# Altium schematic symbol library Controller-RK3562.SCHLIB: 538 symbols (part 1 of 5)
Pins are listed as number, name and electrical type; pins without a type are passive.

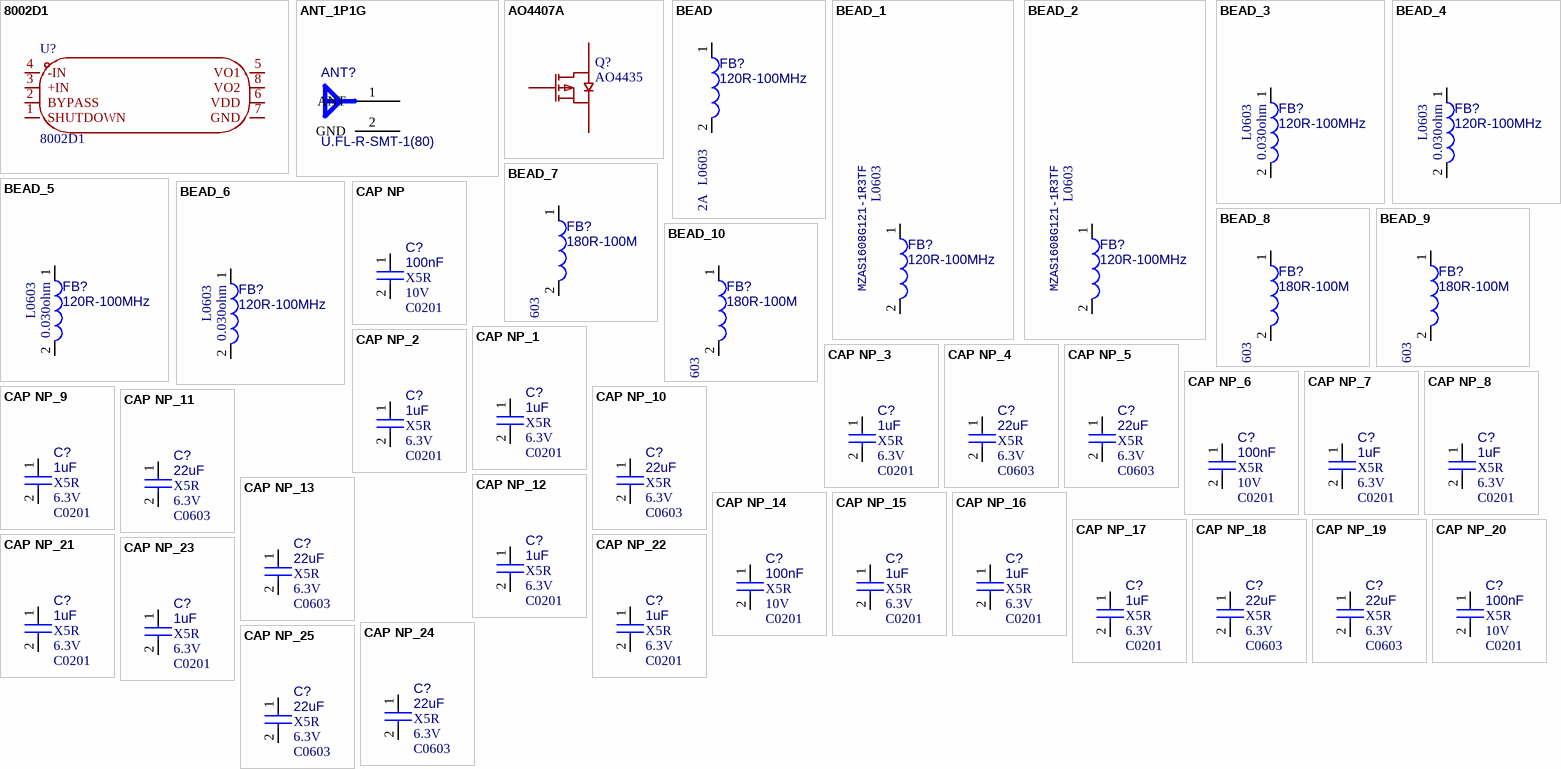
[diagram p0: symbols 8002D1 to CAP NP_25]

## 8002D1
designator U?
ManufacturingPartNumber: *; Manufacturer: *; SupplierPartNumber: *; Supplier: *; VoltageRate: *
footprint SOP-8_L4.9-W3.9-P1.27-LS6.0-BL-1
pins: 1 SHUTDOWN, 2 BYPASS, 3 +IN, 4 -IN, 5 VO1, 6 VDD, 7 GND, 8 VO2

## ANT_1P1G
designator ANT?, comment U.FL-R-SMT-1(80)
BWIPX-1-001E; Manufacturer: Rockchip
footprint IPEX-SMD_BWIPX-1-001E
pins: 1 ANT, 2 GND

## AO4407A
designator Q?, comment AO4435
ManufacturingPartNumber: *; Manufacturer: *; SupplierPartNumber: *; Supplier: *; VoltageRate: *
footprint SOP-8_L4.9-W3.9-P1.27-LS6.0-BL-1
pins: 1 S, 2 S, 3 S, 4 G, 5 D, 6 D, 7 D, 8 D

## BEAD
designator FB?, comment 120R-100MHz  PCB Footprint: L0603  Irms: 2A
BEAD,120R@100MHz,current=2000mA,0603; Part Reference: FB2100; Manufacturer: Murata; DC Resistor: 0.030ohm; Tolerance: 25%; RK PN: BLM18KG121TN1; Priority: L; Value: 120R-100MHz; Part Type: BEAD; Manufacturer PN: BLM18KG121TN1; Created by: DZS
footprint L0603
pins: 1, 2

## BEAD_1
designator FB?, comment 120R-100MHz  PCB Footprint: L0603  Manufacturer PN: MZAS1608G121-1R3TF
BEAD,120R@100MHz,current=2000mA,0603; Part Reference: FB2101; Manufacturer: SUNLORD; DC Resistor: 0.030ohm; Tolerance: 25%; Irms: 2A; RK PN: BLM18KG121TN1; Priority: L; Value: 120R-100MHz; Part Type: BEAD; Created by: DZS
footprint L0603
pins: 1, 2

## BEAD_2
designator FB?, comment 120R-100MHz  PCB Footprint: L0603  Manufacturer PN: MZAS1608G121-1R3TF
BEAD,120R@100MHz,current=2000mA,0603; Part Reference: FB2102; Manufacturer: SUNLORD; DC Resistor: 0.030ohm; Tolerance: 25%; Irms: 2A; Priority: L; RK PN: BLM18KG121TN1; Value: 120R-100MHz; Created by: DZS; Part Type: BEAD
footprint L0603
pins: 1, 2

## BEAD_3
designator FB?, comment 120R-100MHz  DC Resistor: 0.030ohm  PCB Footprint: L0603
BEAD,120R@100MHz,current=2000mA,0603; Part Reference: FB2200; Manufacturer: Murata; Tolerance: 25%; Irms: 2A; RK PN: BLM18KG121TN1; Priority: L; Value: 120R-100MHz; Part Type: BEAD; Manufacturer PN: BLM18KG121TN1; Created by: DZS
footprint L0603
pins: 1, 2

## BEAD_4
designator FB?, comment 120R-100MHz  DC Resistor: 0.030ohm  PCB Footprint: L0603
BEAD,120R@100MHz,current=2000mA,0603; Part Reference: FB2201; Manufacturer PN: BLM18KG121TN1; Manufacturer: Murata; Tolerance: 25%; Irms: 2A; Priority: L; Value: 120R-100MHz; Created by: DZS; Part Type: BEAD; RK PN: BLM18KG121TN1
footprint L0603
pins: 1, 2

## BEAD_5
designator FB?, comment 120R-100MHz  DC Resistor: 0.030ohm  PCB Footprint: L0603
BEAD,120R@100MHz,current=2000mA,0603; Part Reference: FB2202; Manufacturer PN: BLM18KG121TN1; Manufacturer: Murata; Tolerance: 25%; Irms: 2A; Priority: L; Value: 120R-100MHz; Created by: DZS; Part Type: BEAD; RK PN: BLM18KG121TN1
footprint L0603
pins: 1, 2

## BEAD_6
designator FB?, comment 120R-100MHz  DC Resistor: 0.030ohm  PCB Footprint: L0603
BEAD,120R@100MHz,current=2000mA,0603; Part Reference: FB2203; Manufacturer: Murata; Tolerance: 25%; Irms: 2A; RK PN: BLM18KG121TN1; Priority: L; Value: 120R-100MHz; Part Type: BEAD; Manufacturer PN: BLM18KG121TN1; Created by: DZS
footprint L0603
pins: 1, 2

## BEAD_7
designator FB?, comment 180R-100M  PCB Footprint: L0603
Ferrite Bead,180R-100M,0.25,L0603; Part Reference: FB2204; Manufacturer PN: BLM18PG181SN1; Manufacturer: Murata; DC Resistor: 0.09ohm; Tolerance: 25%; Irms: 1.5A; Priority: A; Value: 180R-100M; Created by: YTL; Part Type: BEAD; RK PN: BLM18PG181SN1
footprint L0603
pins: 1, 2

## BEAD_8
designator FB?, comment 180R-100M  PCB Footprint: L0603
Ferrite Bead,180R-100M,0.25,L0603; Part Reference: FB2205; Manufacturer PN: BLM18PG181SN1; Manufacturer: Murata; DC Resistor: 0.09ohm; Tolerance: 25%; Irms: 1.5A; Priority: A; Value: 180R-100M; Created by: YTL; Part Type: BEAD; RK PN: BLM18PG181SN1
footprint L0603
pins: 1, 2

## BEAD_9
designator FB?, comment 180R-100M  PCB Footprint: L0603
Ferrite Bead,180R-100M,0.25,L0603; Part Reference: FB2206; Manufacturer PN: BLM18PG181SN1; Manufacturer: Murata; DC Resistor: 0.09ohm; Tolerance: 25%; Irms: 1.5A; Priority: A; Value: 180R-100M; Created by: YTL; Part Type: BEAD; RK PN: BLM18PG181SN1
footprint L0603
pins: 1, 2

## BEAD_10
designator FB?, comment 180R-100M  PCB Footprint: L0603
Ferrite Bead,180R-100M,0.25,L0603; Part Reference: FB2207; Manufacturer PN: BLM18PG181SN1; Manufacturer: Murata; DC Resistor: 0.09ohm; Tolerance: 25%; Irms: 1.5A; Priority: A; Value: 180R-100M; Created by: YTL; Part Type: BEAD; RK PN: BLM18PG181SN1
footprint L0603
pins: 1, 2

## CAP NP
designator C?, comment 100nF  Dielectric: X5R  PCB Footprint: C0201  Voltage: 10V
cap,100.00nF,+/-10%,10V,X5R,C0201; Part Reference: C1000; Manufacturer PN: C0603X5R1A104K030BC; Manufacturer: TDK; Tolerance: 10%; Priority: A; Value: 100nF; Created by: JJJ; Part Type: C0201; RK PN: C0603X5R1A104K030BC; ClassName: RK
footprint C0201
pins: 1, 2

## CAP NP_1
designator C?, comment 1uF  Dielectric: X5R  PCB Footprint: C0201  Voltage: 6.3V
cap,1.00uF,+/-20%,6.3V,X5R,C0201; Part Reference: C1001; Manufacturer: TDK; RK PN: C0603X5R0J105M030BC; Priority: A; Tolerance: 20%; Value: 1uF; Part Type: C0201; Manufacturer PN: C0603X5R0J105M030BC; Created by: JJJ; ClassName: RK
footprint C0201
pins: 1, 2

## CAP NP_2
designator C?, comment 1uF  Dielectric: X5R  PCB Footprint: C0201  Voltage: 6.3V
cap,1.00uF,+/-20%,6.3V,X5R,C0201; Part Reference: C1002; Manufacturer PN: C0603X5R0J105M030BC; Manufacturer: TDK; Tolerance: 20%; Priority: A; Value: 1uF; Created by: JJJ; Part Type: C0201; RK PN: C0603X5R0J105M030BC; ClassName: RK
footprint C0201
pins: 1, 2

## CAP NP_3
designator C?, comment 1uF  Dielectric: X5R  PCB Footprint: C0201  Voltage: 6.3V
cap,1.00uF,+/-20%,6.3V,X5R,C0201; Part Reference: C1003; Manufacturer PN: C0603X5R0J105M030BC; Manufacturer: TDK; Tolerance: 20%; Priority: A; Value: 1uF; Created by: JJJ; Part Type: C0201; RK PN: C0603X5R0J105M030BC; ClassName: RK
footprint C0201
pins: 1, 2

## CAP NP_4
designator C?, comment 22uF  Dielectric: X5R  PCB Footprint: C0603  Voltage: 6.3V
cap,22.00uF,+/-20%,6.3V,X5R,C0603; Part Reference: C1004; Manufacturer PN: C1608X5R0J226M080AC; Manufacturer: TDK; Tolerance: 20%; Priority: A; Value: 22uF; Created by: JJJ; C_Voltage: 6.3V; Part Type: C0603; RK PN: C1608X5R0J226M080AC; ClassName: RK
footprint C0603
pins: 1, 2

## CAP NP_5
designator C?, comment 22uF  Dielectric: X5R  PCB Footprint: C0603  Voltage: 6.3V
cap,22.00uF,+/-20%,6.3V,X5R,C0603; Part Reference: C1005; Manufacturer PN: C1608X5R0J226M080AC; Manufacturer: TDK; Tolerance: 20%; Priority: A; Value: 22uF; Created by: JJJ; C_Voltage: 6.3V; Part Type: C0603; RK PN: C1608X5R0J226M080AC; ClassName: RK
footprint C0603
pins: 1, 2

## CAP NP_6
designator C?, comment 100nF  Dielectric: X5R  PCB Footprint: C0201  Voltage: 10V
cap,100.00nF,+/-10%,10V,X5R,C0201; Part Reference: C1007; Manufacturer PN: C0603X5R1A104K030BC; Manufacturer: TDK; Tolerance: 10%; Priority: A; Value: 100nF; Created by: JJJ; Part Type: C0201; RK PN: C0603X5R1A104K030BC; ClassName: RK
footprint C0201
pins: 1, 2

## CAP NP_7
designator C?, comment 1uF  Dielectric: X5R  PCB Footprint: C0201  Voltage: 6.3V
cap,1.00uF,+/-20%,6.3V,X5R,C0201; Part Reference: C1008; Manufacturer: TDK; RK PN: C0603X5R0J105M030BC; Priority: A; Tolerance: 20%; Value: 1uF; Part Type: C0201; Manufacturer PN: C0603X5R0J105M030BC; Created by: JJJ; ClassName: RK
footprint C0201
pins: 1, 2

## CAP NP_8
designator C?, comment 1uF  Dielectric: X5R  PCB Footprint: C0201  Voltage: 6.3V
cap,1.00uF,+/-20%,6.3V,X5R,C0201; Part Reference: C1009; Manufacturer PN: C0603X5R0J105M030BC; Manufacturer: TDK; Tolerance: 20%; Priority: A; Value: 1uF; Created by: JJJ; Part Type: C0201; RK PN: C0603X5R0J105M030BC; ClassName: RK
footprint C0201
pins: 1, 2

## CAP NP_9
designator C?, comment 1uF  Dielectric: X5R  PCB Footprint: C0201  Voltage: 6.3V
cap,1.00uF,+/-20%,6.3V,X5R,C0201; Part Reference: C1010; Manufacturer PN: C0603X5R0J105M030BC; Manufacturer: TDK; Tolerance: 20%; Priority: A; Value: 1uF; Created by: JJJ; Part Type: C0201; RK PN: C0603X5R0J105M030BC; ClassName: RK
footprint C0201
pins: 1, 2

## CAP NP_10
designator C?, comment 22uF  Dielectric: X5R  PCB Footprint: C0603  Voltage: 6.3V
cap,22.00uF,+/-20%,6.3V,X5R,C0603; Part Reference: C1011; Manufacturer PN: C1608X5R0J226M080AC; Manufacturer: TDK; Tolerance: 20%; Priority: A; Value: 22uF; Created by: JJJ; C_Voltage: 6.3V; Part Type: C0603; RK PN: C1608X5R0J226M080AC; ClassName: RK
footprint C0603
pins: 1, 2

## CAP NP_11
designator C?, comment 22uF  Dielectric: X5R  PCB Footprint: C0603  Voltage: 6.3V
cap,22.00uF,+/-20%,6.3V,X5R,C0603; Part Reference: C1012; Manufacturer PN: C1608X5R0J226M080AC; Manufacturer: TDK; Tolerance: 20%; Priority: A; Value: 22uF; Created by: JJJ; C_Voltage: 6.3V; Part Type: C0603; RK PN: C1608X5R0J226M080AC; ClassName: RK
footprint C0603
pins: 1, 2

## CAP NP_12
designator C?, comment 1uF  Dielectric: X5R  PCB Footprint: C0201  Voltage: 6.3V
cap,1.00uF,+/-20%,6.3V,X5R,C0201; Part Reference: C1006; Manufacturer PN: C0603X5R0J105M030BC; Manufacturer: TDK; Tolerance: 20%; Priority: A; Value: 1uF; Created by: JJJ; Part Type: C0201; RK PN: C0603X5R0J105M030BC; ClassName: RK
footprint C0201
pins: 1, 2

## CAP NP_13
designator C?, comment 22uF  Dielectric: X5R  PCB Footprint: C0603  Voltage: 6.3V
cap,22.00uF,+/-20%,6.3V,X5R,C0603; Part Reference: C1025; Manufacturer: TDK; RK PN: C1608X5R0J226M080AC; Priority: A; Tolerance: 20%; Value: 22uF; Part Type: C0603; C_Voltage: 6.3V; Manufacturer PN: C1608X5R0J226M080AC; Created by: JJJ; ClassName: RK
footprint C0603
pins: 1, 2

## CAP NP_14
designator C?, comment 100nF  Dielectric: X5R  PCB Footprint: C0201  Voltage: 10V
cap,100.00nF,+/-10%,10V,X5R,C0201; Part Reference: C1013; Manufacturer PN: C0603X5R1A104K030BC; Manufacturer: TDK; Tolerance: 10%; Priority: A; Value: 100nF; Created by: JJJ; Part Type: C0201; RK PN: C0603X5R1A104K030BC; ClassName: RK
footprint C0201
pins: 1, 2

## CAP NP_15
designator C?, comment 1uF  Dielectric: X5R  PCB Footprint: C0201  Voltage: 6.3V
cap,1.00uF,+/-20%,6.3V,X5R,C0201; Part Reference: C1014; Manufacturer: TDK; RK PN: C0603X5R0J105M030BC; Priority: A; Tolerance: 20%; Value: 1uF; Part Type: C0201; Manufacturer PN: C0603X5R0J105M030BC; Created by: JJJ; ClassName: RK
footprint C0201
pins: 1, 2

## CAP NP_16
designator C?, comment 1uF  Dielectric: X5R  PCB Footprint: C0201  Voltage: 6.3V
cap,1.00uF,+/-20%,6.3V,X5R,C0201; Part Reference: C1015; Manufacturer PN: C0603X5R0J105M030BC; Manufacturer: TDK; Tolerance: 20%; Priority: A; Value: 1uF; Created by: JJJ; Part Type: C0201; RK PN: C0603X5R0J105M030BC; ClassName: RK
footprint C0201
pins: 1, 2

## CAP NP_17
designator C?, comment 1uF  Dielectric: X5R  PCB Footprint: C0201  Voltage: 6.3V
cap,1.00uF,+/-20%,6.3V,X5R,C0201; Part Reference: C1016; Manufacturer PN: C0603X5R0J105M030BC; Manufacturer: TDK; Tolerance: 20%; Priority: A; Value: 1uF; Created by: JJJ; Part Type: C0201; RK PN: C0603X5R0J105M030BC; ClassName: RK
footprint C0201
pins: 1, 2

## CAP NP_18
designator C?, comment 22uF  Dielectric: X5R  PCB Footprint: C0603  Voltage: 6.3V
cap,22.00uF,+/-20%,6.3V,X5R,C0603; Part Reference: C1017; Manufacturer PN: C1608X5R0J226M080AC; Manufacturer: TDK; Tolerance: 20%; Priority: A; Value: 22uF; Created by: JJJ; C_Voltage: 6.3V; Part Type: C0603; RK PN: C1608X5R0J226M080AC; ClassName: RK
footprint C0603
pins: 1, 2

## CAP NP_19
designator C?, comment 22uF  Dielectric: X5R  PCB Footprint: C0603  Voltage: 6.3V
cap,22.00uF,+/-20%,6.3V,X5R,C0603; Part Reference: C1018; Manufacturer PN: C1608X5R0J226M080AC; Manufacturer: TDK; Tolerance: 20%; Priority: A; Value: 22uF; Created by: JJJ; C_Voltage: 6.3V; Part Type: C0603; RK PN: C1608X5R0J226M080AC; ClassName: RK
footprint C0603
pins: 1, 2

## CAP NP_20
designator C?, comment 100nF  Dielectric: X5R  PCB Footprint: C0201  Voltage: 10V
cap,100.00nF,+/-10%,10V,X5R,C0201; Part Reference: C1019; Manufacturer PN: C0603X5R1A104K030BC; Manufacturer: TDK; Tolerance: 10%; Priority: A; Value: 100nF; Created by: JJJ; Part Type: C0201; RK PN: C0603X5R1A104K030BC; ClassName: RK
footprint C0201
pins: 1, 2

## CAP NP_21
designator C?, comment 1uF  Dielectric: X5R  PCB Footprint: C0201  Voltage: 6.3V
cap,1.00uF,+/-20%,6.3V,X5R,C0201; Part Reference: C1020; Manufacturer: TDK; RK PN: C0603X5R0J105M030BC; Priority: A; Tolerance: 20%; Value: 1uF; Part Type: C0201; Manufacturer PN: C0603X5R0J105M030BC; Created by: JJJ; ClassName: RK
footprint C0201
pins: 1, 2

## CAP NP_22
designator C?, comment 1uF  Dielectric: X5R  PCB Footprint: C0201  Voltage: 6.3V
cap,1.00uF,+/-20%,6.3V,X5R,C0201; Part Reference: C1021; Manufacturer PN: C0603X5R0J105M030BC; Manufacturer: TDK; Tolerance: 20%; Priority: A; Value: 1uF; Created by: JJJ; Part Type: C0201; RK PN: C0603X5R0J105M030BC; ClassName: RK
footprint C0201
pins: 1, 2

## CAP NP_23
designator C?, comment 1uF  Dielectric: X5R  PCB Footprint: C0201  Voltage: 6.3V
cap,1.00uF,+/-20%,6.3V,X5R,C0201; Part Reference: C1022; Manufacturer: TDK; RK PN: C0603X5R0J105M030BC; Priority: A; Tolerance: 20%; Value: 1uF; Part Type: C0201; Manufacturer PN: C0603X5R0J105M030BC; Created by: JJJ; ClassName: RK
footprint C0201
pins: 1, 2

## CAP NP_24
designator C?, comment 22uF  Dielectric: X5R  PCB Footprint: C0603  Voltage: 6.3V
cap,22.00uF,+/-20%,6.3V,X5R,C0603; Part Reference: C1023; Manufacturer PN: C1608X5R0J226M080AC; Manufacturer: TDK; Tolerance: 20%; Priority: A; Value: 22uF; Created by: JJJ; C_Voltage: 6.3V; Part Type: C0603; RK PN: C1608X5R0J226M080AC; ClassName: RK
footprint C0603
pins: 1, 2

## CAP NP_25
designator C?, comment 22uF  Dielectric: X5R  PCB Footprint: C0603  Voltage: 6.3V
cap,22.00uF,+/-20%,6.3V,X5R,C0603; Part Reference: C1024; Manufacturer PN: C1608X5R0J226M080AC; Manufacturer: TDK; Tolerance: 20%; Priority: A; Value: 22uF; Created by: JJJ; C_Voltage: 6.3V; Part Type: C0603; RK PN: C1608X5R0J226M080AC; ClassName: RK
footprint C0603
pins: 1, 2

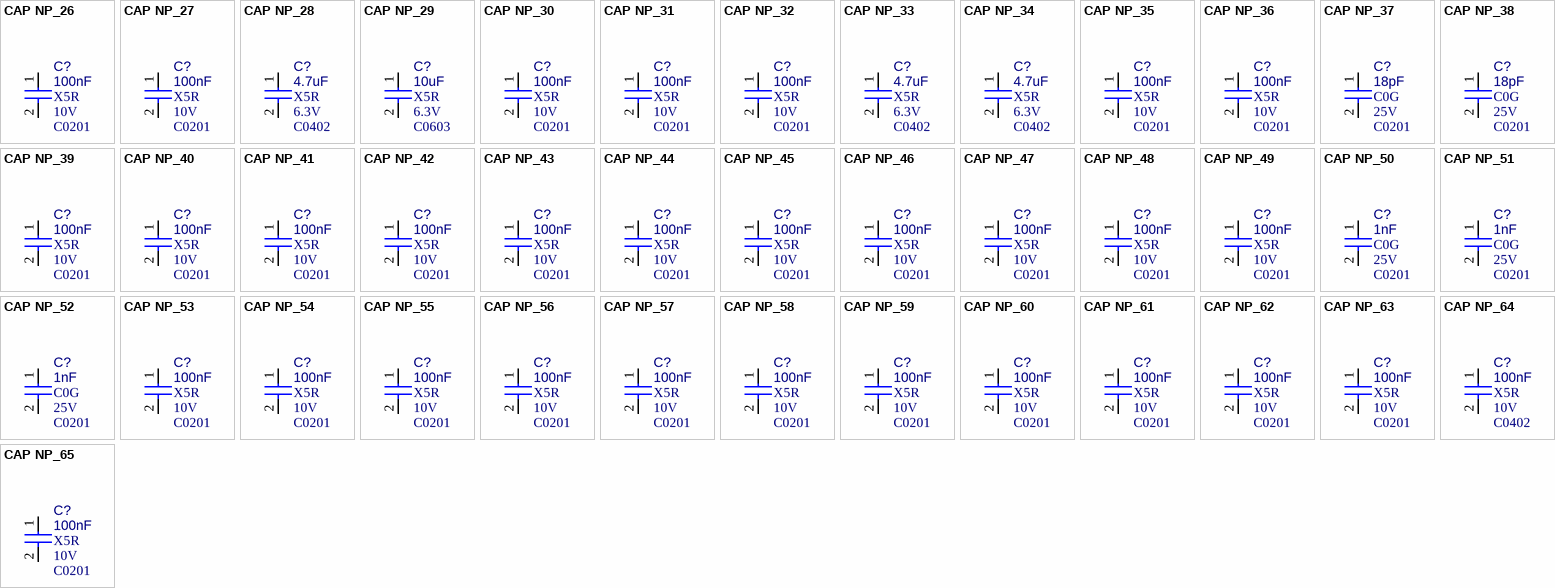
[diagram p1: symbols CAP NP_26 to CAP NP_65]

## CAP NP_26
designator C?, comment 100nF  Dielectric: X5R  PCB Footprint: C0201  Voltage: 10V
cap,100.00nF,+/-10%,10V,X5R,C0201; Part Reference: C1100; Manufacturer PN: C0603X5R1A104K030BC; Manufacturer: TDK; Tolerance: 10%; Priority: A; Value: 100nF; Created by: JJJ; Part Type: C0201; RK PN: C0603X5R1A104K030BC; ClassName: RK
footprint C0201
pins: 1, 2

## CAP NP_27
designator C?, comment 100nF  Dielectric: X5R  PCB Footprint: C0201  Voltage: 10V
cap,100.00nF,+/-10%,10V,X5R,C0201; Part Reference: C1101; Manufacturer PN: C0603X5R1A104K030BC; Manufacturer: TDK; Tolerance: 10%; Priority: A; Value: 100nF; Created by: JJJ; Part Type: C0201; RK PN: C0603X5R1A104K030BC; ClassName: RK
footprint C0201
pins: 1, 2

## CAP NP_28
designator C?, comment 4.7uF  Dielectric: X5R  PCB Footprint: C0402  Voltage: 6.3V
cap,4.70uF,+/-10%,6.3V,X5R,C0402; Part Reference: C1102; Manufacturer: TDK; RK PN: C1005X5R0J475K050BC; Priority: A; Tolerance: 10%; Value: 4.7uF; Part Type: C0402; Manufacturer PN: C1005X5R0J475K050BC; Created by: JJJ; ClassName: RK
footprint C0402
pins: 1, 2

## CAP NP_29
designator C?, comment 10uF  Dielectric: X5R  PCB Footprint: C0603  Voltage: 6.3V
cap,10.00uF,+/-10%,6.3V,X5R,C0603; Part Reference: C1103; Manufacturer PN: C1608X5R0J106K080AB; Manufacturer: TDK; Tolerance: 10%; Priority: A; Value: 10uF; Created by: JJJ; Part Type: C0603; RK PN: C1608X5R0J106K080AB; ClassName: RK
footprint C0603
pins: 1, 2

## CAP NP_30
designator C?, comment 100nF  Dielectric: X5R  PCB Footprint: C0201  Voltage: 10V
cap,100.00nF,+/-10%,10V,X5R,C0201; Part Reference: C1108; Manufacturer: TDK; RK PN: C0603X5R1A104K030BC; Priority: A; Tolerance: 10%; Value: 100nF; Part Type: C0201; Manufacturer PN: C0603X5R1A104K030BC; Created by: JJJ; ClassName: RK
footprint C0201
pins: 1, 2

## CAP NP_31
designator C?, comment 100nF  Dielectric: X5R  PCB Footprint: C0201  Voltage: 10V
cap,100.00nF,+/-10%,10V,X5R,C0201; Part Reference: C1104; Manufacturer PN: C0603X5R1A104K030BC; Manufacturer: TDK; Tolerance: 10%; Priority: A; Value: 100nF; Created by: JJJ; Part Type: C0201; RK PN: C0603X5R1A104K030BC; ClassName: RK
footprint C0201
pins: 1, 2

## CAP NP_32
designator C?, comment 100nF  Dielectric: X5R  PCB Footprint: C0201  Voltage: 10V
cap,100.00nF,+/-10%,10V,X5R,C0201; Part Reference: C1105; Manufacturer PN: C0603X5R1A104K030BC; Manufacturer: TDK; Tolerance: 10%; Priority: A; Value: 100nF; Created by: JJJ; Part Type: C0201; RK PN: C0603X5R1A104K030BC; ClassName: RK
footprint C0201
pins: 1, 2

## CAP NP_33
designator C?, comment 4.7uF  Dielectric: X5R  PCB Footprint: C0402  Voltage: 6.3V
cap,4.70uF,+/-10%,6.3V,X5R,C0402; Part Reference: C1106; Manufacturer: TDK; RK PN: C1005X5R0J475K050BC; Priority: A; Tolerance: 10%; Value: 4.7uF; Part Type: C0402; Manufacturer PN: C1005X5R0J475K050BC; Created by: JJJ; ClassName: RK
footprint C0402
pins: 1, 2

## CAP NP_34
designator C?, comment 4.7uF  Dielectric: X5R  PCB Footprint: C0402  Voltage: 6.3V
cap,4.70uF,+/-10%,6.3V,X5R,C0402; Part Reference: C1107; Manufacturer PN: C1005X5R0J475K050BC; Manufacturer: TDK; Tolerance: 10%; Priority: A; Value: 4.7uF; Created by: JJJ; Part Type: C0402; RK PN: C1005X5R0J475K050BC; ClassName: RK
footprint C0402
pins: 1, 2

## CAP NP_35
designator C?, comment 100nF  Dielectric: X5R  PCB Footprint: C0201  Voltage: 10V
cap,100.00nF,+/-10%,10V,X5R,C0201; Part Reference: C1109; Manufacturer: TDK; RK PN: C0603X5R1A104K030BC; Priority: A; Tolerance: 10%; Value: 100nF; Part Type: C0201; Manufacturer PN: C0603X5R1A104K030BC; Created by: JJJ; ClassName: RK
footprint C0201
pins: 1, 2

## CAP NP_36
designator C?, comment 100nF  Dielectric: X5R  PCB Footprint: C0201  Voltage: 10V
cap,100.00nF,+/-10%,10V,X5R,C0201; Part Reference: C1200; Manufacturer PN: C0603X5R1A104K030BC; Manufacturer: TDK; Tolerance: 10%; Priority: A; Value: 100nF; Created by: JJJ; Part Type: C0201; RK PN: C0603X5R1A104K030BC; ClassName: RK
footprint C0201
pins: 1, 2

## CAP NP_37
designator C?, comment 18pF  Dielectric: C0G  PCB Footprint: C0201  Voltage: 25V
一般用片状陶瓷电容(GRM),cap,18pF,±5%,25V,C0G,C0201; Part Reference: C1201; Manufacturer PN: GRM0335C1E180JA01; Manufacturer: murata; C_Voltage: 6.3V; Priority: A; RK PN: 902004768; Number: 37; Value: 18pF; Created by: JJJ; Tolerance: ±5%; Part Type: 一般用片状陶瓷电容; ClassName: RK
footprint C0201
pins: 1, 2

## CAP NP_38
designator C?, comment 18pF  Dielectric: C0G  PCB Footprint: C0201  Voltage: 25V
一般用片状陶瓷电容(GRM),cap,18pF,±5%,25V,C0G,C0201; Part Reference: C1202; Manufacturer: murata; Manufacturer PN: GRM0335C1E180JA01; Number: 37; RK PN: 902004768; Priority: A; C_Voltage: 6.3V; Value: 18pF; Part Type: 一般用片状陶瓷电容; Tolerance: ±5%; Created by: JJJ; ClassName: RK
footprint C0201
pins: 1, 2

## CAP NP_39
designator C?, comment 100nF  Dielectric: X5R  PCB Footprint: C0201  Voltage: 10V
cap,100.00nF,+/-10%,10V,X5R,C0201; Part Reference: C1203; Manufacturer PN: C0603X5R1A104K030BC; Manufacturer: TDK; Tolerance: 10%; Priority: A; Value: 100nF; Created by: JJJ; Part Type: C0201; RK PN: C0603X5R1A104K030BC; ClassName: RK
footprint C0201
pins: 1, 2

## CAP NP_40
designator C?, comment 100nF  Dielectric: X5R  PCB Footprint: C0201  Voltage: 10V
cap,100.00nF,+/-10%,10V,X5R,C0201; Part Reference: C1205; Manufacturer: TDK; RK PN: C0603X5R1A104K030BC; Priority: A; Tolerance: 10%; Value: 100nF; Part Type: C0201; Manufacturer PN: C0603X5R1A104K030BC; Created by: JJJ; ClassName: RK
footprint C0201
pins: 1, 2

## CAP NP_41
designator C?, comment 100nF  Dielectric: X5R  PCB Footprint: C0201  Voltage: 10V
cap,100.00nF,+/-10%,10V,X5R,C0201; Part Reference: C1207; Manufacturer: TDK; RK PN: C0603X5R1A104K030BC; Priority: A; Tolerance: 10%; Value: 100nF; Part Type: C0201; Manufacturer PN: C0603X5R1A104K030BC; Created by: JJJ; ClassName: RK
footprint C0201
pins: 1, 2

## CAP NP_42
designator C?, comment 100nF  Dielectric: X5R  PCB Footprint: C0201  Voltage: 10V
cap,100.00nF,+/-10%,10V,X5R,C0201; Part Reference: C1210; Manufacturer: TDK; RK PN: C0603X5R1A104K030BC; Priority: A; Tolerance: 10%; Value: 100nF; Part Type: C0201; Manufacturer PN: C0603X5R1A104K030BC; Created by: JJJ; ClassName: RK
footprint C0201
pins: 1, 2

## CAP NP_43
designator C?, comment 100nF  Dielectric: X5R  PCB Footprint: C0201  Voltage: 10V
cap,100.00nF,+/-10%,10V,X5R,C0201; Part Reference: C1213; Manufacturer: TDK; RK PN: C0603X5R1A104K030BC; Priority: A; Tolerance: 10%; Value: 100nF; Part Type: C0201; Manufacturer PN: C0603X5R1A104K030BC; Created by: JJJ; ClassName: RK
footprint C0201
pins: 1, 2

## CAP NP_44
designator C?, comment 100nF  Dielectric: X5R  PCB Footprint: C0201  Voltage: 10V
cap,100.00nF,+/-10%,10V,X5R,C0201; Part Reference: C1212; Manufacturer PN: C0603X5R1A104K030BC; Manufacturer: TDK; Tolerance: 10%; Priority: A; Value: 100nF; Created by: JJJ; Part Type: C0201; RK PN: C0603X5R1A104K030BC; ClassName: RK
footprint C0201
pins: 1, 2

## CAP NP_45
designator C?, comment 100nF  Dielectric: X5R  PCB Footprint: C0201  Voltage: 10V
cap,100.00nF,+/-10%,10V,X5R,C0201; Part Reference: C1214; Manufacturer PN: C0603X5R1A104K030BC; Manufacturer: TDK; Tolerance: 10%; Priority: A; Value: 100nF; Created by: JJJ; Part Type: C0201; RK PN: C0603X5R1A104K030BC; ClassName: RK
footprint C0201
pins: 1, 2

## CAP NP_46
designator C?, comment 100nF  Dielectric: X5R  PCB Footprint: C0201  Voltage: 10V
cap,100.00nF,+/-10%,10V,X5R,C0201; Part Reference: C1300; Manufacturer: TDK; RK PN: C0603X5R1A104K030BC; Priority: A; Tolerance: 10%; Value: 100nF; Part Type: C0201; Manufacturer PN: C0603X5R1A104K030BC; Created by: JJJ; ClassName: RK
footprint C0201
pins: 1, 2

## CAP NP_47
designator C?, comment 100nF  Dielectric: X5R  PCB Footprint: C0201  Voltage: 10V
cap,100.00nF,+/-10%,10V,X5R,C0201; Part Reference: C1400; Manufacturer PN: C0603X5R1A104K030BC; Manufacturer: TDK; Tolerance: 10%; Priority: A; Value: 100nF; Created by: JJJ; Part Type: C0201; RK PN: C0603X5R1A104K030BC; ClassName: RK
footprint C0201
pins: 1, 2

## CAP NP_48
designator C?, comment 100nF  Dielectric: X5R  PCB Footprint: C0201  Voltage: 10V
cap,100.00nF,+/-10%,10V,X5R,C0201; Part Reference: C1401; Manufacturer: TDK; RK PN: C0603X5R1A104K030BC; Priority: A; Tolerance: 10%; Value: 100nF; Part Type: C0201; Manufacturer PN: C0603X5R1A104K030BC; Created by: JJJ; ClassName: RK
footprint C0201
pins: 1, 2

## CAP NP_49
designator C?, comment 100nF  Dielectric: X5R  PCB Footprint: C0201  Voltage: 10V
cap,100.00nF,+/-10%,10V,X5R,C0201; Part Reference: C1500; Manufacturer: TDK; RK PN: C0603X5R1A104K030BC; Priority: A; Tolerance: 10%; Value: 100nF; Part Type: C0201; Manufacturer PN: C0603X5R1A104K030BC; Created by: JJJ; ClassName: RK
footprint C0201
pins: 1, 2

## CAP NP_50
designator C?, comment 1nF  Dielectric: C0G  PCB Footprint: C0201  Voltage: 25V
一般用片状陶瓷电容(GRM),cap,1nF,±5%,25V,C0G,C0201; Part Reference: C1504; Manufacturer PN: GRM0335C1E102JA01; Manufacturer: murata; Priority: A; RK PN: 902004752; Value: 1nF; Created by: JJJ; Tolerance: ±5%; Part Type: 一般用片状陶瓷电容; ClassName: RK
footprint C0201
pins: 1, 2

## CAP NP_51
designator C?, comment 1nF  Dielectric: C0G  PCB Footprint: C0201  Voltage: 25V
一般用片状陶瓷电容(GRM),cap,1nF,±5%,25V,C0G,C0201; Part Reference: C1505; Manufacturer: murata; Manufacturer PN: GRM0335C1E102JA01; RK PN: 902004752; Priority: A; Value: 1nF; Part Type: 一般用片状陶瓷电容; Tolerance: ±5%; Created by: JJJ; ClassName: RK
footprint C0201
pins: 1, 2

## CAP NP_52
designator C?, comment 1nF  Dielectric: C0G  PCB Footprint: C0201  Voltage: 25V
一般用片状陶瓷电容(GRM),cap,1nF,±5%,25V,C0G,C0201; Part Reference: C1506; Manufacturer: murata; Manufacturer PN: GRM0335C1E102JA01; RK PN: 902004752; Priority: A; Value: 1nF; Part Type: 一般用片状陶瓷电容; Tolerance: ±5%; Created by: JJJ; ClassName: RK
footprint C0201
pins: 1, 2

## CAP NP_53
designator C?, comment 100nF  Dielectric: X5R  PCB Footprint: C0201  Voltage: 10V
cap,100.00nF,+/-10%,10V,X5R,C0201; Part Reference: C1501; Manufacturer: TDK; RK PN: C0603X5R1A104K030BC; Priority: A; Tolerance: 10%; Value: 100nF; Part Type: C0201; Manufacturer PN: C0603X5R1A104K030BC; Created by: JJJ; ClassName: RK
footprint C0201
pins: 1, 2

## CAP NP_54
designator C?, comment 100nF  Dielectric: X5R  PCB Footprint: C0201  Voltage: 10V
cap,100.00nF,+/-10%,10V,X5R,C0201; Part Reference: C1502; Manufacturer PN: C0603X5R1A104K030BC; Manufacturer: TDK; Tolerance: 10%; Priority: A; Value: 100nF; Created by: JJJ; Part Type: C0201; RK PN: C0603X5R1A104K030BC; ClassName: RK
footprint C0201
pins: 1, 2

## CAP NP_55
designator C?, comment 100nF  Dielectric: X5R  PCB Footprint: C0201  Voltage: 10V
cap,100.00nF,+/-10%,10V,X5R,C0201; Part Reference: C1503; Manufacturer: TDK; RK PN: C0603X5R1A104K030BC; Priority: A; Tolerance: 10%; Value: 100nF; Part Type: C0201; Manufacturer PN: C0603X5R1A104K030BC; Created by: JJJ; ClassName: RK
footprint C0201
pins: 1, 2

## CAP NP_56
designator C?, comment 100nF  Dielectric: X5R  PCB Footprint: C0201  Voltage: 10V
cap,100.00nF,+/-10%,10V,X5R,C0201; Part Reference: C1600; Manufacturer: TDK; RK PN: C0603X5R1A104K030BC; Priority: A; Tolerance: 10%; Value: 100nF; Part Type: C0201; Manufacturer PN: C0603X5R1A104K030BC; Created by: JJJ; ClassName: RK
footprint C0201
pins: 1, 2

## CAP NP_57
designator C?, comment 100nF  Dielectric: X5R  PCB Footprint: C0201  Voltage: 10V
cap,100.00nF,+/-10%,10V,X5R,C0201; Part Reference: C1601; Manufacturer PN: C0603X5R1A104K030BC; Manufacturer: TDK; Tolerance: 10%; Priority: A; Value: 100nF; Created by: JJJ; Part Type: C0201; RK PN: C0603X5R1A104K030BC; ClassName: RK
footprint C0201
pins: 1, 2

## CAP NP_58
designator C?, comment 100nF  Dielectric: X5R  PCB Footprint: C0201  Voltage: 10V
cap,100.00nF,+/-10%,10V,X5R,C0201; Part Reference: C1602; Manufacturer: TDK; RK PN: C0603X5R1A104K030BC; Priority: A; Tolerance: 10%; Value: 100nF; Part Type: C0201; Manufacturer PN: C0603X5R1A104K030BC; Created by: JJJ; ClassName: RK
footprint C0201
pins: 1, 2

## CAP NP_59
designator C?, comment 100nF  Dielectric: X5R  PCB Footprint: C0201  Voltage: 10V
cap,100.00nF,+/-10%,10V,X5R,C0201; Part Reference: C1603; Manufacturer PN: C0603X5R1A104K030BC; Manufacturer: TDK; Tolerance: 10%; Priority: A; Value: 100nF; Created by: JJJ; Part Type: C0201; RK PN: C0603X5R1A104K030BC; ClassName: RK
footprint C0201
pins: 1, 2

## CAP NP_60
designator C?, comment 100nF  Dielectric: X5R  PCB Footprint: C0201  Voltage: 10V
cap,100.00nF,+/-10%,10V,X5R,C0201; Part Reference: C1604; Manufacturer: TDK; RK PN: C0603X5R1A104K030BC; Priority: A; Tolerance: 10%; Value: 100nF; Part Type: C0201; Manufacturer PN: C0603X5R1A104K030BC; Created by: JJJ; ClassName: RK
footprint C0201
pins: 1, 2

## CAP NP_61
designator C?, comment 100nF  Dielectric: X5R  PCB Footprint: C0201  Voltage: 10V
cap,100.00nF,+/-10%,10V,X5R,C0201; Part Reference: C1700; Manufacturer PN: C0603X5R1A104K030BC; Manufacturer: TDK; Tolerance: 10%; Priority: A; Value: 100nF; Created by: JJJ; Part Type: C0201; RK PN: C0603X5R1A104K030BC; ClassName: RK
footprint C0201
pins: 1, 2

## CAP NP_62
designator C?, comment 100nF  Dielectric: X5R  PCB Footprint: C0201  Voltage: 10V
cap,100.00nF,+/-10%,10V,X5R,C0201; Part Reference: C1701; Manufacturer: TDK; RK PN: C0603X5R1A104K030BC; Priority: A; Tolerance: 10%; Value: 100nF; Part Type: C0201; Manufacturer PN: C0603X5R1A104K030BC; Created by: JJJ; ClassName: RK
footprint C0201
pins: 1, 2

## CAP NP_63
designator C?, comment 100nF  Dielectric: X5R  PCB Footprint: C0201  Voltage: 10V
cap,100.00nF,+/-10%,10V,X5R,C0201; Part Reference: C1702; Manufacturer PN: C0603X5R1A104K030BC; Manufacturer: TDK; Tolerance: 10%; Priority: A; Value: 100nF; Created by: JJJ; Part Type: C0201; RK PN: C0603X5R1A104K030BC; ClassName: RK
footprint C0201
pins: 1, 2

## CAP NP_64
designator C?, comment 100nF  Dielectric: X5R  PCB Footprint: C0402  Voltage: 10V
cap,100.00nF,+/-10%,10V,X5R,C0402; Part Reference: C1800; Manufacturer PN: C1005X5R1A104K050BA; Manufacturer: TDK; Tolerance: 10%; Priority: A; Value: 100nF; Created by: JJJ; Part Type: C0402; RK PN: C1005X5R1A104K050BA; ClassName: RK
footprint C0402
pins: 1, 2

## CAP NP_65
designator C?, comment 100nF  Dielectric: X5R  PCB Footprint: C0201  Voltage: 10V
cap,100.00nF,+/-10%,10V,X5R,C0201; Part Reference: C1801; Manufacturer: TDK; RK PN: C0603X5R1A104K030BC; Priority: A; Tolerance: 10%; Value: 100nF; Part Type: C0201; Manufacturer PN: C0603X5R1A104K030BC; Created by: JJJ; ClassName: RK
footprint C0201
pins: 1, 2

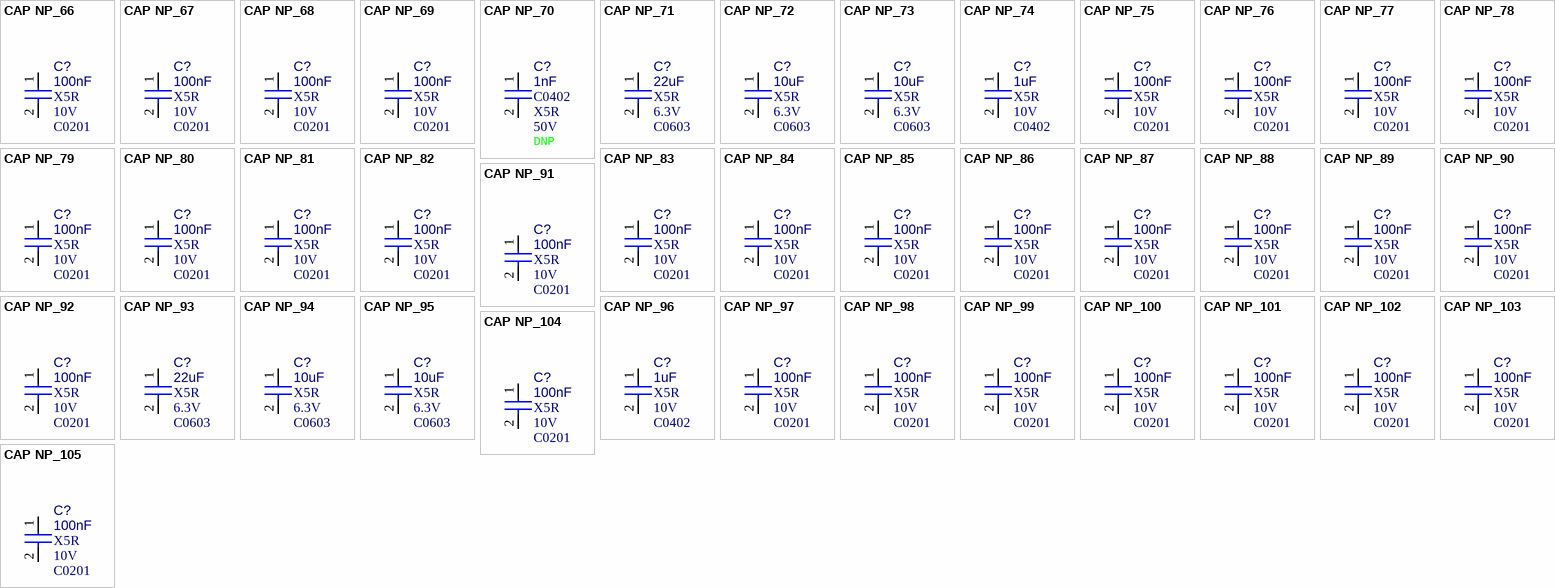
[diagram p2: symbols CAP NP_66 to CAP NP_105]

## CAP NP_66
designator C?, comment 100nF  Dielectric: X5R  PCB Footprint: C0201  Voltage: 10V
cap,100.00nF,+/-10%,10V,X5R,C0201; Part Reference: C1802; Manufacturer: TDK; RK PN: C0603X5R1A104K030BC; Priority: A; Tolerance: 10%; Value: 100nF; Part Type: C0201; Manufacturer PN: C0603X5R1A104K030BC; Created by: JJJ; ClassName: RK
footprint C0201
pins: 1, 2

## CAP NP_67
designator C?, comment 100nF  Dielectric: X5R  PCB Footprint: C0201  Voltage: 10V
cap,100.00nF,+/-10%,10V,X5R,C0201; Part Reference: C1803; Manufacturer: TDK; RK PN: C0603X5R1A104K030BC; Priority: A; Tolerance: 10%; Value: 100nF; Part Type: C0201; Manufacturer PN: C0603X5R1A104K030BC; Created by: JJJ; ClassName: RK
footprint C0201
pins: 1, 2

## CAP NP_68
designator C?, comment 100nF  Dielectric: X5R  PCB Footprint: C0201  Voltage: 10V
cap,100.00nF,+/-10%,10V,X5R,C0201; Part Reference: C1804; Manufacturer: TDK; RK PN: C0603X5R1A104K030BC; Priority: A; Tolerance: 10%; Value: 100nF; Part Type: C0201; Manufacturer PN: C0603X5R1A104K030BC; Created by: JJJ; ClassName: RK
footprint C0201
pins: 1, 2

## CAP NP_69
designator C?, comment 100nF  Dielectric: X5R  PCB Footprint: C0201  Voltage: 10V
cap,100.00nF,+/-10%,10V,X5R,C0201; Part Reference: C1805; Manufacturer PN: C0603X5R1A104K030BC; Manufacturer: TDK; Tolerance: 10%; Priority: A; Value: 100nF; Created by: JJJ; Part Type: C0201; RK PN: C0603X5R1A104K030BC; ClassName: RK
footprint C0201
pins: 1, 2

## CAP NP_70
designator C?, comment 1nF  Dielectric: X5R  PCB Footprint: C0402  Voltage: 50V  option: DNP
cap,1.00nF,+/-10%,50V,X5R,C0402; Part Reference: C3001; Manufacturer: TDK; RK PN: C1005X5R1H102K050BA; Priority: A; Tolerance: 10%; Value: 1nF; Part Type: C0402; Manufacturer PN: C1005X5R1H102K050BA; Created by: JJJ; ClassName: RK
footprint C0402
pins: 1, 2

## CAP NP_71
designator C?, comment 22uF  Dielectric: X5R  PCB Footprint: C0603  Voltage: 6.3V
cap,22.00uF,+/-20%,6.3V,X5R,C0603; Part Reference: C3002; Manufacturer PN: C1608X5R0J226M080AC; Manufacturer: TDK; Tolerance: 20%; Priority: A; Value: 22uF; Created by: JJJ; C_Voltage: 6.3V; Part Type: C0603; RK PN: C1608X5R0J226M080AC; ClassName: RK
footprint C0603
pins: 1, 2

## CAP NP_72
designator C?, comment 10uF  Dielectric: X5R  PCB Footprint: C0603  Voltage: 6.3V
cap,10.00uF,+/-10%,6.3V,X5R,C0603; Part Reference: C3003; Manufacturer PN: C1608X5R0J106K080AB; Manufacturer: TDK; Tolerance: 10%; Priority: A; Value: 10uF; Created by: JJJ; C_Voltage: 6.3V; Part Type: C0603; RK PN: C1608X5R0J106K080AB; ClassName: RK
footprint C0603
pins: 1, 2

## CAP NP_73
designator C?, comment 10uF  Dielectric: X5R  PCB Footprint: C0603  Voltage: 6.3V
cap,10.00uF,+/-10%,6.3V,X5R,C0603; Part Reference: C3004; Manufacturer: TDK; RK PN: C1608X5R0J106K080AB; Priority: A; Tolerance: 10%; Value: 10uF; Part Type: C0603; C_Voltage: 6.3V; Manufacturer PN: C1608X5R0J106K080AB; Created by: JJJ; ClassName: RK
footprint C0603
pins: 1, 2

## CAP NP_74
designator C?, comment 1uF  Dielectric: X5R  PCB Footprint: C0402  Voltage: 10V
cap,1.00uF,+/-10%,10V,X5R,C0402; Part Reference: C3005; Manufacturer PN: C1005X5R1A105K050BB; Manufacturer: TDK; Tolerance: 10%; Priority: A; Value: 1uF; Created by: JJJ; Part Type: C0402; RK PN: C1005X5R1A105K050BB; ClassName: RK
footprint C0402
pins: 1, 2

## CAP NP_75
designator C?, comment 100nF  Dielectric: X5R  PCB Footprint: C0201  Voltage: 10V
cap,100.00nF,+/-10%,10V,X5R,C0201; Part Reference: C3006; Manufacturer PN: C0603X5R1A104K030BC; Manufacturer: TDK; Tolerance: 10%; Priority: A; Value: 100nF; Created by: JJJ; Part Type: C0201; RK PN: C0603X5R1A104K030BC; ClassName: RK
footprint C0201
pins: 1, 2

## CAP NP_76
designator C?, comment 100nF  Dielectric: X5R  PCB Footprint: C0201  Voltage: 10V
cap,100.00nF,+/-10%,10V,X5R,C0201; Part Reference: C3007; Manufacturer PN: C0603X5R1A104K030BC; Manufacturer: TDK; Tolerance: 10%; Priority: A; Value: 100nF; Created by: JJJ; Part Type: C0201; RK PN: C0603X5R1A104K030BC; ClassName: RK
footprint C0201
pins: 1, 2

## CAP NP_77
designator C?, comment 100nF  Dielectric: X5R  PCB Footprint: C0201  Voltage: 10V
cap,100.00nF,+/-10%,10V,X5R,C0201; Part Reference: C3008; Manufacturer PN: C0603X5R1A104K030BC; Manufacturer: TDK; Tolerance: 10%; Priority: A; Value: 100nF; Created by: JJJ; Part Type: C0201; RK PN: C0603X5R1A104K030BC; ClassName: RK
footprint C0201
pins: 1, 2

## CAP NP_78
designator C?, comment 100nF  Dielectric: X5R  PCB Footprint: C0201  Voltage: 10V
cap,100.00nF,+/-10%,10V,X5R,C0201; Part Reference: C3009; Manufacturer PN: C0603X5R1A104K030BC; Manufacturer: TDK; Tolerance: 10%; Priority: A; Value: 100nF; Created by: JJJ; Part Type: C0201; RK PN: C0603X5R1A104K030BC; ClassName: RK
footprint C0201
pins: 1, 2

## CAP NP_79
designator C?, comment 100nF  Dielectric: X5R  PCB Footprint: C0201  Voltage: 10V
cap,100.00nF,+/-10%,10V,X5R,C0201; Part Reference: C3010; Manufacturer PN: C0603X5R1A104K030BC; Manufacturer: TDK; Tolerance: 10%; Priority: A; Value: 100nF; Created by: JJJ; Part Type: C0201; RK PN: C0603X5R1A104K030BC; ClassName: RK
footprint C0201
pins: 1, 2

## CAP NP_80
designator C?, comment 100nF  Dielectric: X5R  PCB Footprint: C0201  Voltage: 10V
cap,100.00nF,+/-10%,10V,X5R,C0201; Part Reference: C3011; Manufacturer PN: C0603X5R1A104K030BC; Manufacturer: TDK; Tolerance: 10%; Priority: A; Value: 100nF; Created by: JJJ; Part Type: C0201; RK PN: C0603X5R1A104K030BC; ClassName: RK
footprint C0201
pins: 1, 2

## CAP NP_81
designator C?, comment 100nF  Dielectric: X5R  PCB Footprint: C0201  Voltage: 10V
cap,100.00nF,+/-10%,10V,X5R,C0201; Part Reference: C3012; Manufacturer: TDK; RK PN: C0603X5R1A104K030BC; Priority: A; Tolerance: 10%; Value: 100nF; Part Type: C0201; Manufacturer PN: C0603X5R1A104K030BC; Created by: JJJ; ClassName: RK
footprint C0201
pins: 1, 2

## CAP NP_82
designator C?, comment 100nF  Dielectric: X5R  PCB Footprint: C0201  Voltage: 10V
cap,100.00nF,+/-10%,10V,X5R,C0201; Part Reference: C3013; Manufacturer: TDK; RK PN: C0603X5R1A104K030BC; Priority: A; Tolerance: 10%; Value: 100nF; Part Type: C0201; Manufacturer PN: C0603X5R1A104K030BC; Created by: JJJ; ClassName: RK
footprint C0201
pins: 1, 2

## CAP NP_83
designator C?, comment 100nF  Dielectric: X5R  PCB Footprint: C0201  Voltage: 10V
cap,100.00nF,+/-10%,10V,X5R,C0201; Part Reference: C3014; Manufacturer: TDK; RK PN: C0603X5R1A104K030BC; Priority: A; Tolerance: 10%; Value: 100nF; Part Type: C0201; Manufacturer PN: C0603X5R1A104K030BC; Created by: JJJ; ClassName: RK
footprint C0201
pins: 1, 2

## CAP NP_84
designator C?, comment 100nF  Dielectric: X5R  PCB Footprint: C0201  Voltage: 10V
cap,100.00nF,+/-10%,10V,X5R,C0201; Part Reference: C3015; Manufacturer: TDK; RK PN: C0603X5R1A104K030BC; Priority: A; Tolerance: 10%; Value: 100nF; Part Type: C0201; Manufacturer PN: C0603X5R1A104K030BC; Created by: JJJ; ClassName: RK
footprint C0201
pins: 1, 2

## CAP NP_85
designator C?, comment 100nF  Dielectric: X5R  PCB Footprint: C0201  Voltage: 10V
cap,100.00nF,+/-10%,10V,X5R,C0201; Part Reference: C3016; Manufacturer: TDK; RK PN: C0603X5R1A104K030BC; Priority: A; Tolerance: 10%; Value: 100nF; Part Type: C0201; Manufacturer PN: C0603X5R1A104K030BC; Created by: JJJ; ClassName: RK
footprint C0201
pins: 1, 2

## CAP NP_86
designator C?, comment 100nF  Dielectric: X5R  PCB Footprint: C0201  Voltage: 10V
cap,100.00nF,+/-10%,10V,X5R,C0201; Part Reference: C3017; Manufacturer PN: C0603X5R1A104K030BC; Manufacturer: TDK; Tolerance: 10%; Priority: A; Value: 100nF; Created by: JJJ; Part Type: C0201; RK PN: C0603X5R1A104K030BC; ClassName: RK
footprint C0201
pins: 1, 2

## CAP NP_87
designator C?, comment 100nF  Dielectric: X5R  PCB Footprint: C0201  Voltage: 10V
cap,100.00nF,+/-10%,10V,X5R,C0201; Part Reference: C3018; Manufacturer PN: C0603X5R1A104K030BC; Manufacturer: TDK; Tolerance: 10%; Priority: A; Value: 100nF; Created by: JJJ; Part Type: C0201; RK PN: C0603X5R1A104K030BC; ClassName: RK
footprint C0201
pins: 1, 2

## CAP NP_88
designator C?, comment 100nF  Dielectric: X5R  PCB Footprint: C0201  Voltage: 10V
cap,100.00nF,+/-10%,10V,X5R,C0201; Part Reference: C3019; Manufacturer: TDK; RK PN: C0603X5R1A104K030BC; Priority: A; Tolerance: 10%; Value: 100nF; Part Type: C0201; Manufacturer PN: C0603X5R1A104K030BC; Created by: JJJ; ClassName: RK
footprint C0201
pins: 1, 2

## CAP NP_89
designator C?, comment 100nF  Dielectric: X5R  PCB Footprint: C0201  Voltage: 10V
cap,100.00nF,+/-10%,10V,X5R,C0201; Part Reference: C3020; Manufacturer: TDK; RK PN: C0603X5R1A104K030BC; Priority: A; Tolerance: 10%; Value: 100nF; Part Type: C0201; Manufacturer PN: C0603X5R1A104K030BC; Created by: JJJ; ClassName: RK
footprint C0201
pins: 1, 2

## CAP NP_90
designator C?, comment 100nF  Dielectric: X5R  PCB Footprint: C0201  Voltage: 10V
cap,100.00nF,+/-10%,10V,X5R,C0201; Part Reference: C3021; Manufacturer: TDK; RK PN: C0603X5R1A104K030BC; Priority: A; Tolerance: 10%; Value: 100nF; Part Type: C0201; Manufacturer PN: C0603X5R1A104K030BC; Created by: JJJ; ClassName: RK
footprint C0201
pins: 1, 2

## CAP NP_91
designator C?, comment 100nF  Dielectric: X5R  PCB Footprint: C0201  Voltage: 10V
cap,100.00nF,+/-10%,10V,X5R,C0201; Part Reference: C3022; Manufacturer PN: C0603X5R1A104K030BC; Manufacturer: TDK; Tolerance: 10%; Priority: A; Value: 100nF; Created by: JJJ; Part Type: C0201; RK PN: C0603X5R1A104K030BC; ClassName: RK
footprint C0201
pins: 1, 2

## CAP NP_92
designator C?, comment 100nF  Dielectric: X5R  PCB Footprint: C0201  Voltage: 10V
cap,100.00nF,+/-10%,10V,X5R,C0201; Part Reference: C3023; Manufacturer PN: C0603X5R1A104K030BC; Manufacturer: TDK; Tolerance: 10%; Priority: A; Value: 100nF; Created by: JJJ; Part Type: C0201; RK PN: C0603X5R1A104K030BC; ClassName: RK
footprint C0201
pins: 1, 2

## CAP NP_93
designator C?, comment 22uF  Dielectric: X5R  PCB Footprint: C0603  Voltage: 6.3V
cap,22.00uF,+/-20%,6.3V,X5R,C0603; Part Reference: C3029; Manufacturer: TDK; RK PN: C1608X5R0J226M080AC; Priority: A; Tolerance: 20%; Value: 22uF; Part Type: C0603; C_Voltage: 6.3V; Manufacturer PN: C1608X5R0J226M080AC; Created by: JJJ; ClassName: RK
footprint C0603
pins: 1, 2

## CAP NP_94
designator C?, comment 10uF  Dielectric: X5R  PCB Footprint: C0603  Voltage: 6.3V
cap,10.00uF,+/-10%,6.3V,X5R,C0603; Part Reference: C3030; Manufacturer PN: C1608X5R0J106K080AB; Manufacturer: TDK; Tolerance: 10%; Priority: A; Value: 10uF; Created by: JJJ; C_Voltage: 6.3V; Part Type: C0603; RK PN: C1608X5R0J106K080AB; ClassName: RK
footprint C0603
pins: 1, 2

## CAP NP_95
designator C?, comment 10uF  Dielectric: X5R  PCB Footprint: C0603  Voltage: 6.3V
cap,10.00uF,+/-10%,6.3V,X5R,C0603; Part Reference: C3031; Manufacturer: TDK; RK PN: C1608X5R0J106K080AB; Priority: A; Tolerance: 10%; Value: 10uF; Part Type: C0603; C_Voltage: 6.3V; Manufacturer PN: C1608X5R0J106K080AB; Created by: JJJ; ClassName: RK
footprint C0603
pins: 1, 2

## CAP NP_96
designator C?, comment 1uF  Dielectric: X5R  PCB Footprint: C0402  Voltage: 10V
cap,1.00uF,+/-10%,10V,X5R,C0402; Part Reference: C3032; Manufacturer: TDK; RK PN: C1005X5R1A105K050BB; Priority: A; Tolerance: 10%; Value: 1uF; Part Type: C0402; Manufacturer PN: C1005X5R1A105K050BB; Created by: JJJ; ClassName: RK
footprint C0402
pins: 1, 2

## CAP NP_97
designator C?, comment 100nF  Dielectric: X5R  PCB Footprint: C0201  Voltage: 10V
cap,100.00nF,+/-10%,10V,X5R,C0201; Part Reference: C3033; Manufacturer: TDK; RK PN: C0603X5R1A104K030BC; Priority: A; Tolerance: 10%; Value: 100nF; Part Type: C0201; Manufacturer PN: C0603X5R1A104K030BC; Created by: JJJ; ClassName: RK
footprint C0201
pins: 1, 2

## CAP NP_98
designator C?, comment 100nF  Dielectric: X5R  PCB Footprint: C0201  Voltage: 10V
cap,100.00nF,+/-10%,10V,X5R,C0201; Part Reference: C3034; Manufacturer PN: C0603X5R1A104K030BC; Manufacturer: TDK; Tolerance: 10%; Priority: A; Value: 100nF; Created by: JJJ; Part Type: C0201; RK PN: C0603X5R1A104K030BC; ClassName: RK
footprint C0201
pins: 1, 2

## CAP NP_99
designator C?, comment 100nF  Dielectric: X5R  PCB Footprint: C0201  Voltage: 10V
cap,100.00nF,+/-10%,10V,X5R,C0201; Part Reference: C3035; Manufacturer: TDK; RK PN: C0603X5R1A104K030BC; Priority: A; Tolerance: 10%; Value: 100nF; Part Type: C0201; Manufacturer PN: C0603X5R1A104K030BC; Created by: JJJ; ClassName: RK
footprint C0201
pins: 1, 2

## CAP NP_100
designator C?, comment 100nF  Dielectric: X5R  PCB Footprint: C0201  Voltage: 10V
cap,100.00nF,+/-10%,10V,X5R,C0201; Part Reference: C3036; Manufacturer: TDK; RK PN: C0603X5R1A104K030BC; Priority: A; Tolerance: 10%; Value: 100nF; Part Type: C0201; Manufacturer PN: C0603X5R1A104K030BC; Created by: JJJ; ClassName: RK
footprint C0201
pins: 1, 2

## CAP NP_101
designator C?, comment 100nF  Dielectric: X5R  PCB Footprint: C0201  Voltage: 10V
cap,100.00nF,+/-10%,10V,X5R,C0201; Part Reference: C3037; Manufacturer: TDK; RK PN: C0603X5R1A104K030BC; Priority: A; Tolerance: 10%; Value: 100nF; Part Type: C0201; Manufacturer PN: C0603X5R1A104K030BC; Created by: JJJ; ClassName: RK
footprint C0201
pins: 1, 2

## CAP NP_102
designator C?, comment 100nF  Dielectric: X5R  PCB Footprint: C0201  Voltage: 10V
cap,100.00nF,+/-10%,10V,X5R,C0201; Part Reference: C3038; Manufacturer: TDK; RK PN: C0603X5R1A104K030BC; Priority: A; Tolerance: 10%; Value: 100nF; Part Type: C0201; Manufacturer PN: C0603X5R1A104K030BC; Created by: JJJ; ClassName: RK
footprint C0201
pins: 1, 2

## CAP NP_103
designator C?, comment 100nF  Dielectric: X5R  PCB Footprint: C0201  Voltage: 10V
cap,100.00nF,+/-10%,10V,X5R,C0201; Part Reference: C3039; Manufacturer PN: C0603X5R1A104K030BC; Manufacturer: TDK; Tolerance: 10%; Priority: A; Value: 100nF; Created by: JJJ; Part Type: C0201; RK PN: C0603X5R1A104K030BC; ClassName: RK
footprint C0201
pins: 1, 2

## CAP NP_104
designator C?, comment 100nF  Dielectric: X5R  PCB Footprint: C0201  Voltage: 10V
cap,100.00nF,+/-10%,10V,X5R,C0201; Part Reference: C3040; Manufacturer PN: C0603X5R1A104K030BC; Manufacturer: TDK; Tolerance: 10%; Priority: A; Value: 100nF; Created by: JJJ; Part Type: C0201; RK PN: C0603X5R1A104K030BC; ClassName: RK
footprint C0201
pins: 1, 2

## CAP NP_105
designator C?, comment 100nF  Dielectric: X5R  PCB Footprint: C0201  Voltage: 10V
cap,100.00nF,+/-10%,10V,X5R,C0201; Part Reference: C3041; Manufacturer PN: C0603X5R1A104K030BC; Manufacturer: TDK; Tolerance: 10%; Priority: A; Value: 100nF; Created by: JJJ; Part Type: C0201; RK PN: C0603X5R1A104K030BC; ClassName: RK
footprint C0201
pins: 1, 2

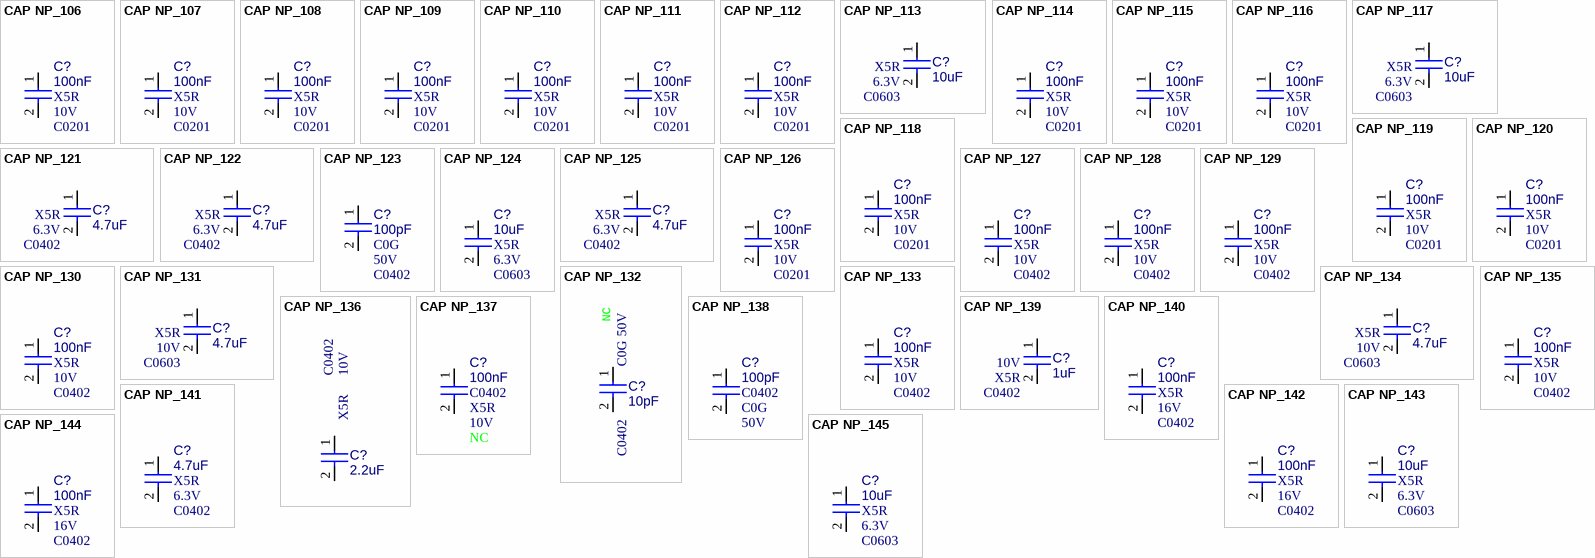
[diagram p3: symbols CAP NP_106 to CAP NP_145]

## CAP NP_106
designator C?, comment 100nF  Dielectric: X5R  PCB Footprint: C0201  Voltage: 10V
cap,100.00nF,+/-10%,10V,X5R,C0201; Part Reference: C3042; Manufacturer PN: C0603X5R1A104K030BC; Manufacturer: TDK; Tolerance: 10%; Priority: A; Value: 100nF; Created by: JJJ; Part Type: C0201; RK PN: C0603X5R1A104K030BC; ClassName: RK
footprint C0201
pins: 1, 2

## CAP NP_107
designator C?, comment 100nF  Dielectric: X5R  PCB Footprint: C0201  Voltage: 10V
cap,100.00nF,+/-10%,10V,X5R,C0201; Part Reference: C3043; Manufacturer: TDK; RK PN: C0603X5R1A104K030BC; Priority: A; Tolerance: 10%; Value: 100nF; Part Type: C0201; Manufacturer PN: C0603X5R1A104K030BC; Created by: JJJ; ClassName: RK
footprint C0201
pins: 1, 2

## CAP NP_108
designator C?, comment 100nF  Dielectric: X5R  PCB Footprint: C0201  Voltage: 10V
cap,100.00nF,+/-10%,10V,X5R,C0201; Part Reference: C3044; Manufacturer: TDK; RK PN: C0603X5R1A104K030BC; Priority: A; Tolerance: 10%; Value: 100nF; Part Type: C0201; Manufacturer PN: C0603X5R1A104K030BC; Created by: JJJ; ClassName: RK
footprint C0201
pins: 1, 2

## CAP NP_109
designator C?, comment 100nF  Dielectric: X5R  PCB Footprint: C0201  Voltage: 10V
cap,100.00nF,+/-10%,10V,X5R,C0201; Part Reference: C3045; Manufacturer: TDK; RK PN: C0603X5R1A104K030BC; Priority: A; Tolerance: 10%; Value: 100nF; Part Type: C0201; Manufacturer PN: C0603X5R1A104K030BC; Created by: JJJ; ClassName: RK
footprint C0201
pins: 1, 2

## CAP NP_110
designator C?, comment 100nF  Dielectric: X5R  PCB Footprint: C0201  Voltage: 10V
cap,100.00nF,+/-10%,10V,X5R,C0201; Part Reference: C3046; Manufacturer PN: C0603X5R1A104K030BC; Manufacturer: TDK; Tolerance: 10%; Priority: A; Value: 100nF; Created by: JJJ; Part Type: C0201; RK PN: C0603X5R1A104K030BC; ClassName: RK
footprint C0201
pins: 1, 2

## CAP NP_111
designator C?, comment 100nF  Dielectric: X5R  PCB Footprint: C0201  Voltage: 10V
cap,100.00nF,+/-10%,10V,X5R,C0201; Part Reference: C3047; Manufacturer PN: C0603X5R1A104K030BC; Manufacturer: TDK; Tolerance: 10%; Priority: A; Value: 100nF; Created by: JJJ; Part Type: C0201; RK PN: C0603X5R1A104K030BC; ClassName: RK
footprint C0201
pins: 1, 2

## CAP NP_112
designator C?, comment 100nF  Dielectric: X5R  PCB Footprint: C0201  Voltage: 10V
cap,100.00nF,+/-10%,10V,X5R,C0201; Part Reference: C3048; Manufacturer: TDK; RK PN: C0603X5R1A104K030BC; Priority: A; Tolerance: 10%; Value: 100nF; Part Type: C0201; Manufacturer PN: C0603X5R1A104K030BC; Created by: JJJ; ClassName: RK
footprint C0201
pins: 1, 2

## CAP NP_113
designator C?, comment 10uF  Dielectric: X5R  PCB Footprint: C0603  Voltage: 6.3V
cap,10.00uF,+/-10%,6.3V,X5R,C0603; Part Reference: C3024; Manufacturer: TDK; Number: 37; RK PN: C1608X5R0J106K080AB; Priority: A; Tolerance: 10%; Value: 10uF; Part Type: C0603; Manufacturer PN: C1608X5R0J106K080AB; C_Voltage: 6.3V; Created by: JJJ; ClassName: RK
footprint C0603
pins: 1, 2

## CAP NP_114
designator C?, comment 100nF  Dielectric: X5R  PCB Footprint: C0201  Voltage: 10V
cap,100.00nF,+/-10%,10V,X5R,C0201; Part Reference: C3025; Manufacturer: TDK; RK PN: C0603X5R1A104K030BC; Priority: A; Tolerance: 10%; Value: 100nF; Part Type: C0201; Manufacturer PN: C0603X5R1A104K030BC; Created by: JJJ; ClassName: RK
footprint C0201
pins: 1, 2

## CAP NP_115
designator C?, comment 100nF  Dielectric: X5R  PCB Footprint: C0201  Voltage: 10V
cap,100.00nF,+/-10%,10V,X5R,C0201; Part Reference: C3026; Manufacturer: TDK; RK PN: C0603X5R1A104K030BC; Priority: A; Tolerance: 10%; Value: 100nF; Part Type: C0201; Manufacturer PN: C0603X5R1A104K030BC; Created by: JJJ; ClassName: RK
footprint C0201
pins: 1, 2

## CAP NP_116
designator C?, comment 100nF  Dielectric: X5R  PCB Footprint: C0201  Voltage: 10V
cap,100.00nF,+/-10%,10V,X5R,C0201; Part Reference: C3027; Manufacturer: TDK; RK PN: C0603X5R1A104K030BC; Priority: A; Tolerance: 10%; Value: 100nF; Part Type: C0201; Manufacturer PN: C0603X5R1A104K030BC; Created by: JJJ; ClassName: RK
footprint C0201
pins: 1, 2

## CAP NP_117
designator C?, comment 10uF  Dielectric: X5R  PCB Footprint: C0603  Voltage: 6.3V
cap,10.00uF,+/-10%,6.3V,X5R,C0603; Part Reference: C3049; Manufacturer: TDK; Number: 37; RK PN: C1608X5R0J106K080AB; Priority: A; Tolerance: 10%; Value: 10uF; Part Type: C0603; Manufacturer PN: C1608X5R0J106K080AB; C_Voltage: 6.3V; Created by: JJJ; ClassName: RK
footprint C0603
pins: 1, 2

## CAP NP_118
designator C?, comment 100nF  Dielectric: X5R  PCB Footprint: C0201  Voltage: 10V
cap,100.00nF,+/-10%,10V,X5R,C0201; Part Reference: C3050; Manufacturer PN: C0603X5R1A104K030BC; Manufacturer: TDK; Tolerance: 10%; Priority: A; Value: 100nF; Created by: JJJ; Part Type: C0201; RK PN: C0603X5R1A104K030BC; ClassName: RK
footprint C0201
pins: 1, 2

## CAP NP_119
designator C?, comment 100nF  Dielectric: X5R  PCB Footprint: C0201  Voltage: 10V
cap,100.00nF,+/-10%,10V,X5R,C0201; Part Reference: C3051; Manufacturer PN: C0603X5R1A104K030BC; Manufacturer: TDK; Tolerance: 10%; Priority: A; Value: 100nF; Created by: JJJ; Part Type: C0201; RK PN: C0603X5R1A104K030BC; ClassName: RK
footprint C0201
pins: 1, 2

## CAP NP_120
designator C?, comment 100nF  Dielectric: X5R  PCB Footprint: C0201  Voltage: 10V
cap,100.00nF,+/-10%,10V,X5R,C0201; Part Reference: C3052; Manufacturer PN: C0603X5R1A104K030BC; Manufacturer: TDK; Tolerance: 10%; Priority: A; Value: 100nF; Created by: JJJ; Part Type: C0201; RK PN: C0603X5R1A104K030BC; ClassName: RK
footprint C0201
pins: 1, 2

## CAP NP_121
designator C?, comment 4.7uF  Dielectric: X5R  PCB Footprint: C0402  Voltage: 6.3V
cap,4.70uF,+/-10%,6.3V,X5R,C0402; Part Reference: C3055; Manufacturer: TDK; Number: 37; RK PN: C1005X5R0J475K050BC; Priority: A; Tolerance: 10%; Value: 4.7uF; Part Type: C0402; Manufacturer PN: C1005X5R0J475K050BC; C_Voltage: 6.3V; Created by: JJJ; ClassName: RK
footprint C0402
pins: 1, 2

## CAP NP_122
designator C?, comment 4.7uF  Dielectric: X5R  PCB Footprint: C0402  Voltage: 6.3V
cap,4.70uF,+/-10%,6.3V,X5R,C0402; Part Reference: C3060; Manufacturer PN: C1005X5R0J475K050BC; Manufacturer: TDK; Tolerance: 10%; Priority: A; Number: 37; Value: 4.7uF; Created by: JJJ; C_Voltage: 6.3V; Part Type: C0402; RK PN: C1005X5R0J475K050BC; ClassName: RK
footprint C0402
pins: 1, 2

## CAP NP_123
designator C?, comment 100pF  Dielectric: C0G  PCB Footprint: C0402  Voltage: 50V
cap,100.00pF,+/-10%,50V,C0G,C0402; Part Reference: C3061; Manufacturer PN: C1005C0G1H101K050BA; Manufacturer: TDK; Tolerance: 10%; Priority: A; Value: 100pF; Created by: JJJ; Part Type: C0402; RK PN: C1005C0G1H101K050BA; ClassName: RK
footprint C0402
pins: 1, 2

## CAP NP_124
designator C?, comment 10uF  Dielectric: X5R  PCB Footprint: C0603  Voltage: 6.3V
cap,10.00uF,+/-10%,6.3V,X5R,C0603; Part Reference: C3062; Manufacturer: TDK; RK PN: C1608X5R0J106K080AB; Priority: A; Tolerance: 10%; Value: 10uF; Part Type: C0603; C_Voltage: 6.3V; Manufacturer PN: C1608X5R0J106K080AB; Created by: JJJ; ClassName: RK
footprint C0603
pins: 1, 2